# Altium footprint library L_1812_COMMON_MODE.PcbLib: 1 footprints
Each footprint in its own frame and in the unit in brackets; x right, y up, seen from the top. Pads: shape width x height; smd on the part's side, far side on the other; paste and mask are expansions set on the pad; w line width, h text height; cw(c..) or ccw(c..) is an arc to the next point about the centre after c.
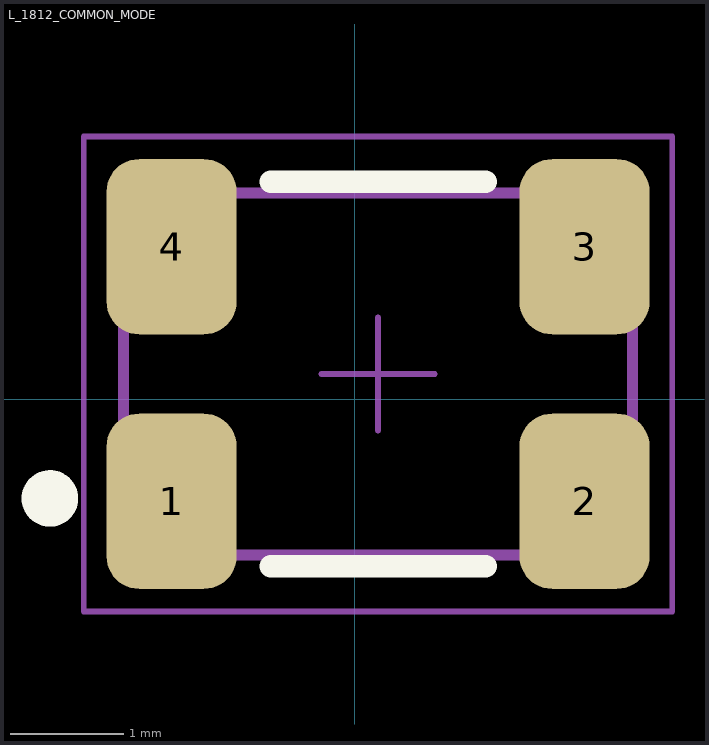
[diagram p0: the footprint, top view; thin cyan lines are the x and y axes]

## L_1812_COMMON_MODE [mm]
pads (4):
  rrect50% 1.15x1.55 smd: 1(-1.619,-0.903) 2(2.031,-0.903) 3(2.031,1.347) 4(-1.619,1.347)
Top Overlay:
  circle w0.25: c-2.694,-0.878 r0.125
  lines w0.2: -0.744,-1.478 1.156,-1.478 ; -0.744,1.922 1.156,1.922
Top Assembly:
  lines w0.1: -2.044,-1.378 2.456,-1.378 2.456,1.822 -2.044,1.822 -2.044,-1.378
Top Courtyard:
  lines w0.05: -0.294,0.222 0.706,0.222 ; 0.206,-0.278 0.206,0.722 ; -2.394,-1.878 -2.394,2.322 2.806,2.322 2.806,-1.878 -2.394,-1.878
3D body "744235xxx.stp": height 2.84, standoff -0.01, extent -2.044,-1.378 2.456,1.822